# Altium schematic symbol library hole.SchLib: 1 symbol
Pins are listed as number, name and electrical type; pins without a type are passive.

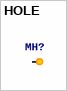
[diagram p0: symbol HOLE]

## HOLE
designator MH?  (no BOM)
pins: 1